# Altium schematic symbol library mySchlib.SchLib: 1 symbol
Pins are listed as number, name and electrical type; pins without a type are passive.

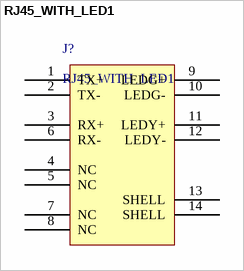
[diagram p0: symbol RJ45_WITH_LED1]

## RJ45_WITH_LED1
designator J?
footprint RJ45
pins: 1 TX+, 2 TX-, 3 RX+, 4 NC, 5 NC, 6 RX-, 7 NC, 8 NC, 9 LEDG+, 10 LEDG-, 11 LEDY+, 12 LEDY-, 13 SHELL, 14 SHELL